# Altium schematic symbol library LIB.SchLib: 7 symbols
Pins are listed as number, name and electrical type; pins without a type are passive.

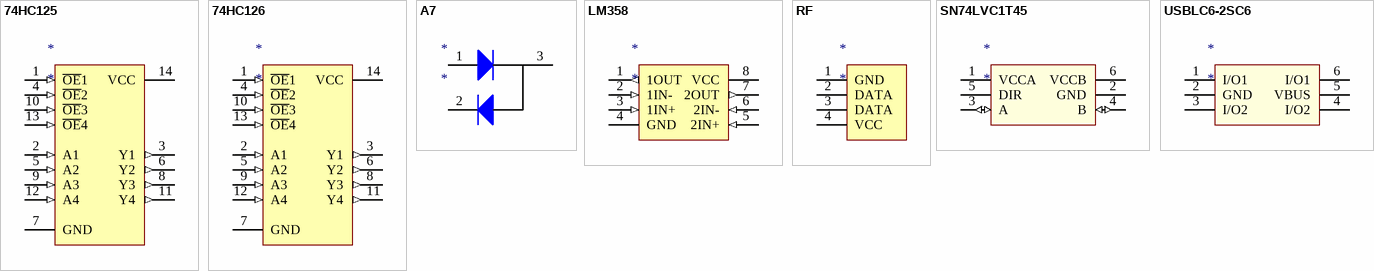
[diagram p0: symbols 74HC125 to USBLC6-2SC6]

## 74HC125
designator *
footprint SOP14
pins: 1 ~{OE}1 (in), 2 A1 (in), 3 Y1 (out), 4 ~{OE}2 (in), 5 A2 (in), 6 Y2 (out), 7 GND (power), 8 Y3 (out), 9 A3 (in), 10 ~{OE}3 (in), 11 Y4 (out), 12 A4 (in), 13 ~{OE}4 (in), 14 VCC (power)

## 74HC126
designator *
footprint SOP14
pins: 1 ~{OE}1 (in), 2 A1 (in), 3 Y1 (out), 4 ~{OE}2 (in), 5 A2 (in), 6 Y2 (out), 7 GND (power), 8 Y3 (out), 9 A3 (in), 10 ~{OE}3 (in), 11 Y4 (out), 12 A4 (in), 13 ~{OE}4 (in), 14 VCC (power)

## A7
designator *
footprint SOT-23
pins: 1 A, 2 A, 3 K

## LM358
designator *
footprint SOP8
pins: 1 1OUT (out), 2 1IN- (in), 3 1IN+ (in), 4 GND (power), 5 2IN+ (in), 6 2IN- (in), 7 2OUT (out), 8 VCC (power)

## RF
designator *
pins: 1 GND (power), 2 DATA, 3 DATA, 4 VCC (power)

## SN74LVC1T45
designator *
footprint SOT23-6
pins: 1 VCCA, 2 GND, 3 A (io), 4 B (io), 5 DIR, 6 VCCB

## USBLC6-2SC6
designator *
footprint SOT23-6
pins: 1 I/O1, 2 GND (power), 3 I/O2, 4 I/O2, 5 VBUS (power), 6 I/O1